# EAGLE library part W3L1ZC105MAT1A (library (manufact)-capacitors-AVX-element14)
CAPACITOR ARRAY,1206
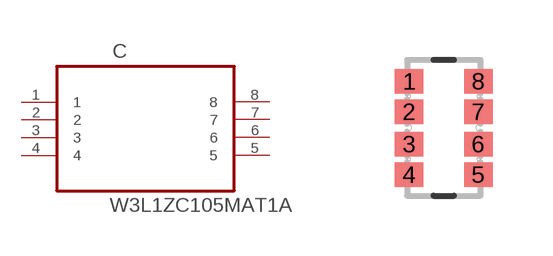
[diagram p2: symbol with the pads of CAPCAF80PX32X16X55-08; footprint CAPCAF80PX32X16X55-08]

Designator prefix C

## W3L1ZC105MAT1A (MPN: W3L1ZC105MAT1A; OC_FARNELL: 1623204; OC_NEWARK: 12N3204; SUPPLIER: AVX; TOLERANCE: ±20%; VALUE: 1.0µF; VOLTAGE: 10V)  [CAPCAF80PX32X16X55-08]
1  1  pas
2  2  pas
3  3  pas
4  4  pas
5  5  pas
6  6  pas
7  7  pas
8  8  pas

## Footprint CAPCAF80PX32X16X55-08 (pad centres in mm)
smd 0.711 x 0.61: 1 -0.864,1.168; 2 -0.864,0.406; 3 -0.864,-0.406; 4 -0.864,-1.168; 5 0.864,-1.168; 6 0.864,-0.406; 7 0.864,0.406; 8 0.864,1.168